# Altium footprint library DMX512.PcbLib: 32 footprints (part 2 of 2)
Each footprint in its own frame and in the unit in brackets; x right, y up, seen from the top. Pads: shape width x height; smd on the part's side, far side on the other; paste and mask are expansions set on the pad; w line width, h text height; cw(c..) or ccw(c..) is an arc to the next point about the centre after c.
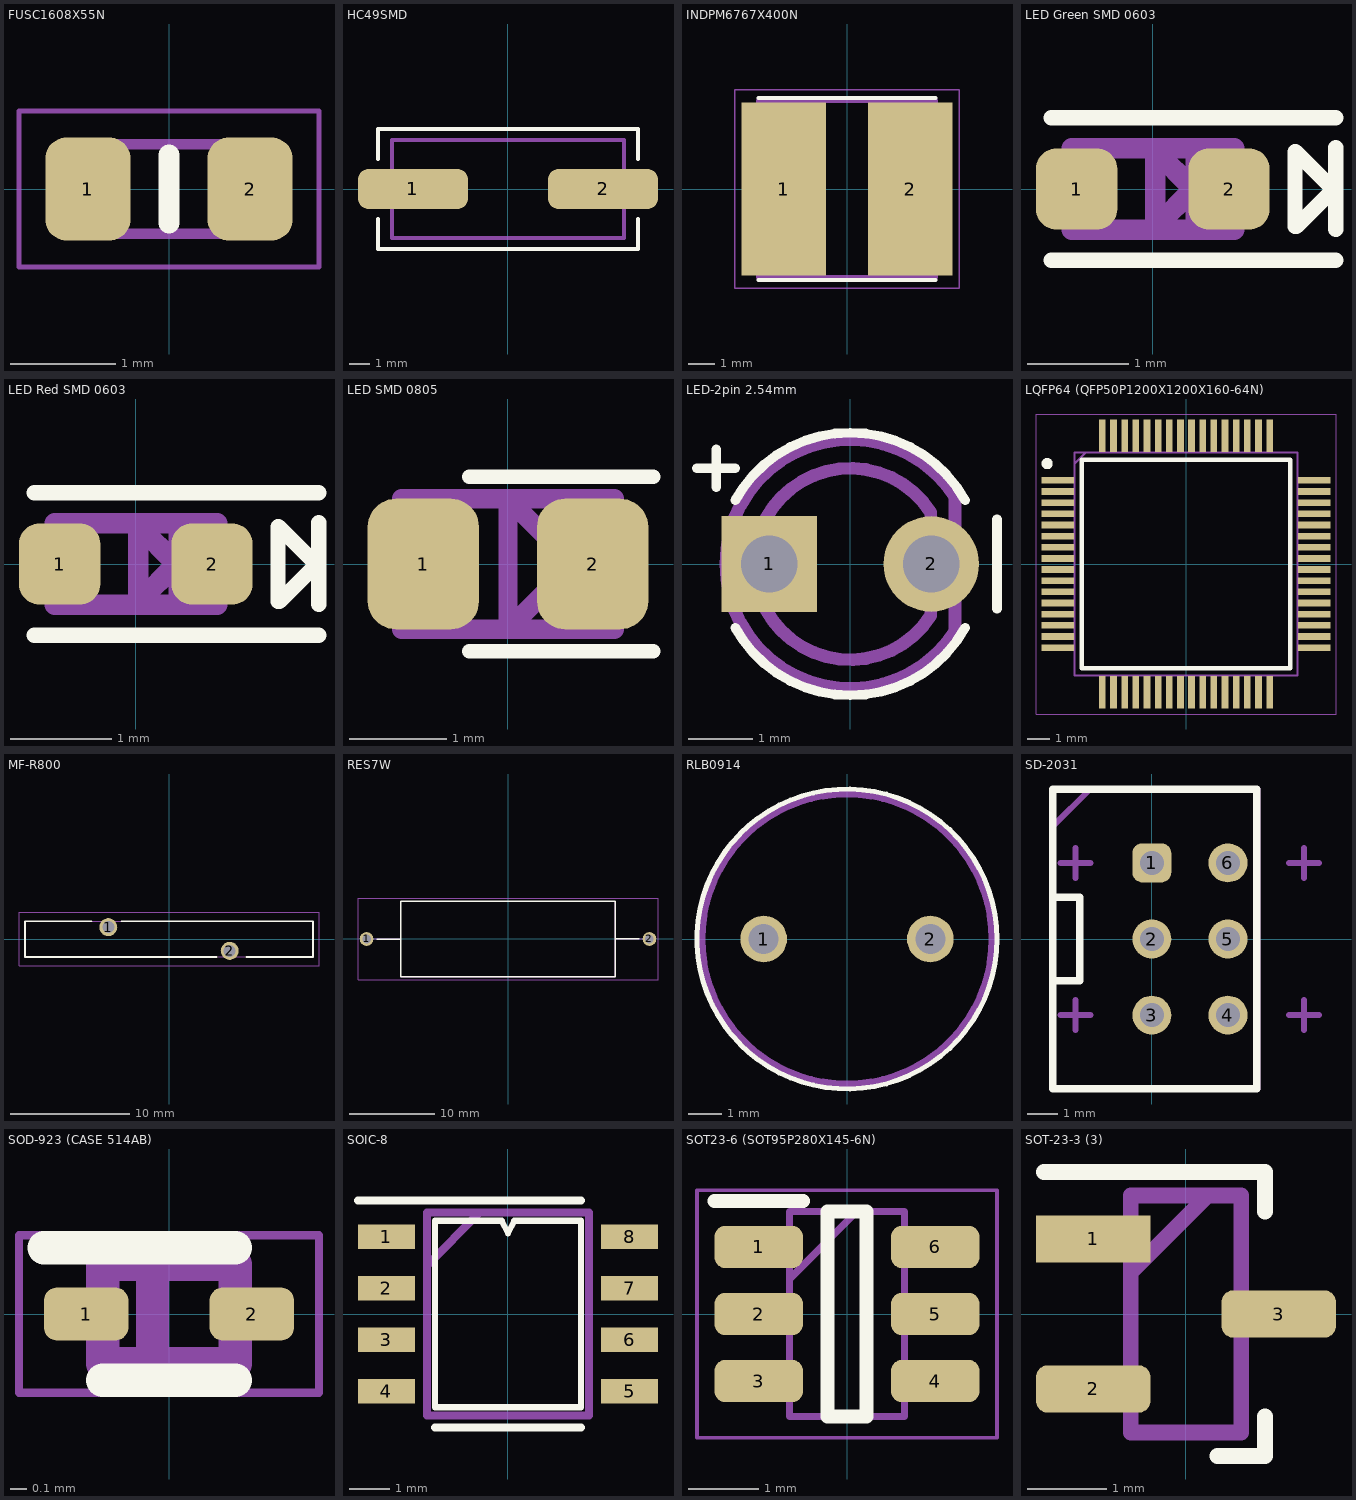
[diagram p1: the footprints below, top view; thin cyan lines are the x and y axes]

## FUSC1608X55N [mm]
pads (2):
  rrect50% 0.81x0.98 smd: 1(-0.77,0) 2(0.77,0)
Top Overlay:
  lines w0.2: 0,-0.325 0,0.325
Mechanical 13:
  lines w0.1: -0.775,-0.425 0.775,-0.425 0.775,0.425 -0.775,0.425 -0.775,-0.425
Mechanical 15:
  lines w0.05: -1.425,-0.74 1.425,-0.74 1.425,0.74 -1.425,0.74 -1.425,-0.74
3D body "MFU0603FF00500P500.stp": height 0.55, standoff 0, extent -0.775,-0.425 0.775,0.425

## HC49SMD [mm] "HC49SMD Crystal Formed Leads 11.4x4.7mm"
height 4.3
pads (2):
  rrect50% 5.5x2 smd: 1(-4.75,0) 2(4.75,0)
Top Overlay:
  lines w0.2: -6.5,-1.5 -6.5,-3 6.5,-3 6.5,-1.5 ; -6.5,1.5 -6.5,3 6.5,3 6.5,1.5
Mechanical 13:
  lines w0.2: -5.8,-2.45 -5.8,2.45 5.8,2.45 5.8,-2.45 -5.8,-2.45
3D body "Y1-1_HC49US-1.STEP": height 4.2, standoff 0, extent -6.35,-2.35 6.35,2.35

## INDPM6767X400N [mm]
pads (2):
  rect 3.2x6.55 smd: 1(-2.4,0) 2(2.4,0)
Top Overlay:
  lines w0.15: -3.35,-3.45 3.35,-3.45 ; -3.35,3.45 3.35,3.45
Mechanical 13:
  lines w0.2: -3.35,-3.35 3.35,-3.35 3.35,3.35 -3.35,3.35 -3.35,-3.35
Mechanical 15:
  lines w0.05: -4.25,-3.75 4.25,-3.75 4.25,3.75 -4.25,3.75 -4.25,-3.75
3D body "CDRH6D38NP-180NC.stp": height 4, standoff 0, extent -3.35,-3.35 3.35,3.35

## LED Green SMD 0603 [mm] "1.6x0.8x0.75mm SMD Green LED"
height 0.75
pads (2):
  rrect50% 0.8x0.8 smd: 1(-0.75,0) 2(0.75,0)
Top Overlay:
  lines w0.15: -1,-0.7 1.8,-0.7 ; -1,0.7 1.8,0.7 ; 1.8,0.408 1.8,-0.396 1.802,-0.398 ; 1.4,-0.368 1.4,0.368 1.405,0.368 1.777,-0.004 1.413,-0.368 1.4,-0.368 1.4,-0.368
Mechanical 13:
  lines w0.2: 0.423,0.4 0.423,-0.391 0.425,-0.393 ; -0.8,-0.4 -0.8,0.4 0.8,0.4 0.8,-0.4 -0.8,-0.4 ; 0.023,-0.363 0.024,-0.363 0.037,-0.363 0.4,0 0.028,0.372 0.023,0.372 0.023,-0.363
3D body "0603 LED Green.SLDPRT": height 0.6, standoff 0, extent -0.81,-0.4 0.81,0.4

## LED Red SMD 0603 [mm] "1.6x0.8x0.75mm SMD Red LED"
height 0.75
pads (2):
  rrect50% 0.8x0.8 smd: 1(-0.75,0) 2(0.75,0)
Top Overlay:
  lines w0.15: -1,-0.7 1.8,-0.7 ; -1,0.7 1.8,0.7 ; 1.8,0.408 1.8,-0.396 1.802,-0.398 ; 1.4,-0.368 1.4,0.368 1.405,0.368 1.777,-0.004 1.413,-0.368 1.4,-0.368 1.4,-0.368
Mechanical 13:
  lines w0.2: 0.423,0.4 0.423,-0.391 0.425,-0.393 ; -0.8,-0.4 -0.8,0.4 0.8,0.4 0.8,-0.4 -0.8,-0.4 ; 0.023,-0.363 0.024,-0.363 0.037,-0.363 0.4,0 0.028,0.372 0.023,0.372 0.023,-0.363
3D body "0603 LED RED.SLDPRT": height 0.6, standoff 0, extent -0.81,-0.4 0.81,0.4

## LED SMD 0805 [mm] "2x1.2 mm SMD LED"
height 0.75
pads (2):
  rrect50% 1.15x1.35 smd: 1(-0.875,0) 2(0.875,0)
Top Overlay:
  lines w0.15: -0.4,-0.9 1.5,-0.9 ; -0.4,0.9 1.5,0.9
Mechanical 13:
  lines w0.2: 0.6,-0.675 0.6,0.675 ; 0.6,-0.075 0,-0.675 0,0.675 0.6,0.075 ; -1.1,-0.675 1.1,-0.675 1.1,0.675 -1.1,0.675 -1.1,-0.675
3D body "everlight-17-21-0805LED-YELLOW.step": height 1.09, standoff -0.02, extent -1,-0.625 1,0.625

## LED-2pin 2.54mm [mm] "LED 2.54, 2 Leads"
height 10
pads (2):
  rect 1.5x1.5 hole 0.889: 1(-1.27,0)
  round 1.5 hole 0.889: 2(1.27,0)
Top Overlay:
  lines w0.15: -2.4,1.5 -1.8,1.5 ; -2.1,1.2 -2.1,1.8 ; -1.8,-1 ccw(c0,0) 1.8,-1 ; -1.8,1 cw(c0,0) 1.8,1 ; 2.3,-0.7 2.3,0.7
Mechanical 13:
  lines w0.2: 1.263,-0.809 cw(c0,0) 1.263,0.809 1.263,-0.809 ; 1.642,-1.051 cw(c0,0) 1.642,1.051 1.642,-1.051
3D body "CircuitWorks-LED DIP 3MM.step": height 6.5, standoff -2, extent -1.9,-1.9 1.6,1.9

## LQFP64 (QFP50P1200X1200X160-64N) [mm]
pads (64):
  rect 1.45x0.3 smd: 1(-5.75,3.75) 2(-5.75,3.25) 3(-5.75,2.75) 4(-5.75,2.25) 5(-5.75,1.75) 6(-5.75,1.25) 7(-5.75,0.75) 8(-5.75,0.25) 9(-5.75,-0.25) 10(-5.75,-0.75) 11(-5.75,-1.25) 12(-5.75,-1.75) 13(-5.75,-2.25) 14(-5.75,-2.75) 15(-5.75,-3.25) 16(-5.75,-3.75) 33(5.75,-3.75) 34(5.75,-3.25) 35(5.75,-2.75) 36(5.75,-2.25) 37(5.75,-1.75) 38(5.75,-1.25) 39(5.75,-0.75) 40(5.75,-0.25) 41(5.75,0.25) 42(5.75,0.75) 43(5.75,1.25) 44(5.75,1.75) 45(5.75,2.25) 46(5.75,2.75) 47(5.75,3.25) 48(5.75,3.75)
  rect 0.3x1.45 smd: 17(-3.75,-5.75) 18(-3.25,-5.75) 19(-2.75,-5.75) 20(-2.25,-5.75) 21(-1.75,-5.75) 22(-1.25,-5.75) 23(-0.75,-5.75) 24(-0.25,-5.75) 25(0.25,-5.75) 26(0.75,-5.75) 27(1.25,-5.75) 28(1.75,-5.75) 29(2.25,-5.75) 30(2.75,-5.75) 31(3.25,-5.75) 32(3.75,-5.75) 49(3.75,5.75) 50(3.25,5.75) 51(2.75,5.75) 52(2.25,5.75) 53(1.75,5.75) 54(1.25,5.75) 55(0.75,5.75) 56(0.25,5.75) 57(-0.25,5.75) 58(-0.75,5.75) 59(-1.25,5.75) 60(-1.75,5.75) 61(-2.25,5.75) 62(-2.75,5.75) 63(-3.25,5.75) 64(-3.75,5.75)
Top Overlay:
  circle w0.25: c-6.225,4.5 r0.125
  lines w0.2: -4.675,-4.675 4.675,-4.675 4.675,4.675 -4.675,4.675 -4.675,-4.675
Mechanical 13:
  lines w0.1: -5,4.5 -4.5,5 ; -5,-5 5,-5 5,5 -5,5 -5,-5
Mechanical 15:
  lines w0.05: -6.725,-6.725 6.725,-6.725 6.725,6.725 -6.725,6.725 -6.725,-6.725
3D body "STM32F103R8T7.stp": height 1.6, standoff 0, extent -6,-6 6,6

## MF-R800 [mm]
height 32.9
pads (2):
  round 1.515 hole 1.01: 1(-5.1,0.995) 2(5.1,-0.995)
Top Overlay:
  lines w0.15: -6.5,1.5 -12.1,1.5 -12.1,-1.5 4,-1.5 ; -4,1.5 12.1,1.5 ; 6.5,-1.5 12.1,-1.5 12.1,1.5 ; 12.1,1.5 12.1,1.5
Mechanical 13:
  lines w0.1: -12.1,-1.5 12.1,-1.5 12.1,1.5 -12.1,1.5 -12.1,-1.5
Mechanical 15:
  lines w0.1: -12.6,-2.252 12.6,-2.252 12.6,2.253 -12.6,2.253 -12.6,-2.252
3D body "68925.stp": height 26.75, standoff -9.55, extent -11.75,-1.8 11.75,1.8

## RES7W [mm] "Axial Resistor 7W"
pads (2):
  round 1.6 hole 1: 1(-16.5,0) 2(16.5,0)
Top Overlay:
  lines w0.15: -15.3,0 -12.5,0 ; 12.5,0 15.3,0 ; -12.5,-4.4 -12.5,4.4 12.5,4.4 12.5,-4.4 -12.5,-4.4
Mechanical 13:
  lines w0.1: -16.5,0 -12.5,0 ; 12.5,0 16.5,0 ; -12.5,-4.4 -12.5,4.4 12.5,4.4 12.5,-4.4 -12.5,-4.4
Mechanical 15:
  lines w0.05: -17.5,-4.75 -17.5,4.75 17.5,4.75 17.5,-4.75 -17.5,-4.75
3D body: height 4.8, standoff 4, extent -16.5,-0.398 -12.5,0.398
3D body: height 4.4, standoff 0, extent -16.899,-0.398 -16.101,0.398
3D body: height 4.4, standoff 0, extent 16.101,-0.398 16.899,0.398
3D body: height 8.8, standoff 0, extent -12.5,-4.4 12.5,4.4
3D body: height 4.8, standoff 4, extent 12.5,-0.398 16.5,0.398

## RLB0914 [mm]
pads (2):
  round 1.4 hole 0.9: 1(-2.5,0) 2(2.5,0)
Top Overlay:
  circle w0.15: c0,0 r4.5
Mechanical 13:
  circle w0.2: c0,0 r4.35
3D body "RLB0914-101KL.stp": height 13, standoff -30, extent -4.6,-4.6 4.6,4.6

## SD-2031 [mm]
pads (6):
  rrect50% 1.3x1.3 hole 0.8: 1(0,2.54)
  round 1.3 hole 0.8: 2(0,0) 3(0,-2.54) 4(2.54,-2.54) 5(2.54,0) 6(2.54,2.54)
Top Overlay:
  lines w0.254: -3.3,-1.388 -2.4,-1.388 -2.4,1.388 -3.3,1.388 ; -3.3,-5 -3.3,5 3.5,5 3.5,-5 -3.3,-5
Mechanical 13:
  lines w0.2: -3.3,-5.004 -3.3,5.004 3.52,5.004 3.52,-5.004 -3.286,-5.004 ; -3.3,3.757 -2.053,5.004 ; -3.04,-2.54 -2.54,-2.54 ; -3.04,2.54 -2.54,2.54 ; -2.54,-3.04 -2.54,-2.54 ; -2.54,-2.04 -2.54,-2.54 ; -2.54,2.04 -2.54,2.54 ; -2.54,3.04 -2.54,2.54 ; -2.04,-2.54 -2.54,-2.54 ; -2.04,2.54 -2.54,2.54 ; 4.58,-2.54 5.08,-2.54 ; 4.58,2.54 5.08,2.54 ; 5.08,-3.04 5.08,-2.54 ; 5.08,-2.04 5.08,-2.54 ; 5.08,2.04 5.08,2.54 ; 5.08,3.04 5.08,2.54 ; 5.58,-2.54 5.08,-2.54 ; 5.58,2.54 5.08,2.54
3D body "SD-2231.stp": height 10, standoff -3.3, extent -3.3,-5 3.52,5

## SOD-923 (CASE 514AB) [mm] "SOD?923 (CASE 514AB)"
pads (2):
  rrect50% 0.51x0.32 smd: 1(-0.5,0) 2(0.5,0)
Top Overlay:
  lines w0.2: -0.755,0.4 0.4,0.4 ; -0.4,-0.4 0.4,-0.4
Mechanical 13:
  lines w0.2: -0.1,-0.3 -0.1,0.3 ; -0.4,-0.3 0.4,-0.3 0.4,0.3 -0.4,0.3 -0.4,-0.3
Mechanical 15:
  lines w0.05: -0.905,-0.475 0.905,-0.475 0.905,0.475 -0.905,0.475 -0.905,-0.475
3D body "SZESD9B5.0ST5G.stp": height 0.4, standoff 0, extent -0.5,-0.3 0.5,0.3

## SOIC-8 [mm] "SOIC-8"
height 1.75
pads (8):
  rect 1.4x0.6 smd: 1(-3,1.905) 2(-3,0.635) 3(-3,-0.635) 4(-3,-1.905) 5(3,-1.905) 6(3,-0.635) 7(3,0.635) 8(3,1.905)
Top Overlay:
  lines w0.15: -1.8,-2.3 1.8,-2.3 1.8,2.3 0.154,2.3 0,1.992 -0.154,2.3 -1.8,2.3 -1.8,-2.3
  lines w0.2: -3.7,2.8 1.8,2.8 ; -1.8,-2.8 1.8,-2.8
Mechanical 13:
  lines w0.2: -2,1.2 -0.7,2.5 ; -2,-2.5 -2,2.5 2,2.5 2,-2.5 -2,-2.5
3D body "8 SO.SLDPRT": height 1.75, standoff 0, extent -3.1,-2.5 3.1,2.5

## SOT23-6 (SOT95P280X145-6N) [mm]
pads (6):
  rrect50% 1.25x0.6 smd: 1(-1.25,0.95) 2(-1.25,0) 3(-1.25,-0.95) 4(1.25,-0.95) 5(1.25,0) 6(1.25,0.95)
Top Overlay:
  lines w0.2: -1.875,1.6 -0.625,1.6 ; -0.275,-1.45 -0.275,1.45 0.275,1.45 0.275,-1.45 -0.275,-1.45
Mechanical 13:
  lines w0.1: -0.812,0.5 0.138,1.45 ; -0.812,-1.45 -0.812,1.45 0.812,1.45 0.812,-1.45 -0.812,-1.45
Mechanical 15:
  lines w0.05: -2.125,-1.75 -2.125,1.75 2.125,1.75 2.125,-1.75 -2.125,-1.75
3D body "MAX3283EAUT+T.stp": height 1.45, standoff 0, extent -1.4,-1.45 1.4,1.45

## SOT-23-3 (3) [mm] "3-Lead Plastic SOT-23, 3rd Pin alone"
height 1.1
pads (3):
  rect 1.45x0.6 smd: 1(-1.175,0.95)
  rrect50% 1.45x0.6 smd: 2(-1.175,-0.95) 3(1.175,0)
Top Overlay:
  lines w0.2: -1.8,1.8 1,1.8 1,1.3 ; 0.4,-1.8 1,-1.8 1,-1.3
Mechanical 13:
  lines w0.2: -0.7,0.525 0.275,1.5 ; -0.7,-1.5 -0.7,1.5 0.7,1.5 0.7,-1.5 -0.7,-1.5
3D body "SW3dPS-sot-3p290x130ll237h100.STEP": height 1, standoff 0, extent -1.22,-1.45 1.15,1.45